# Altium footprint library MOLEX KK 0022272091.PCBLIB: 1 footprints
Each footprint in its own frame and in the unit in brackets; x right, y up, seen from the top. Pads: shape width x height; smd on the part's side, far side on the other; paste and mask are expansions set on the pad; w line width, h text height; cw(c..) or ccw(c..) is an arc to the next point about the centre after c.
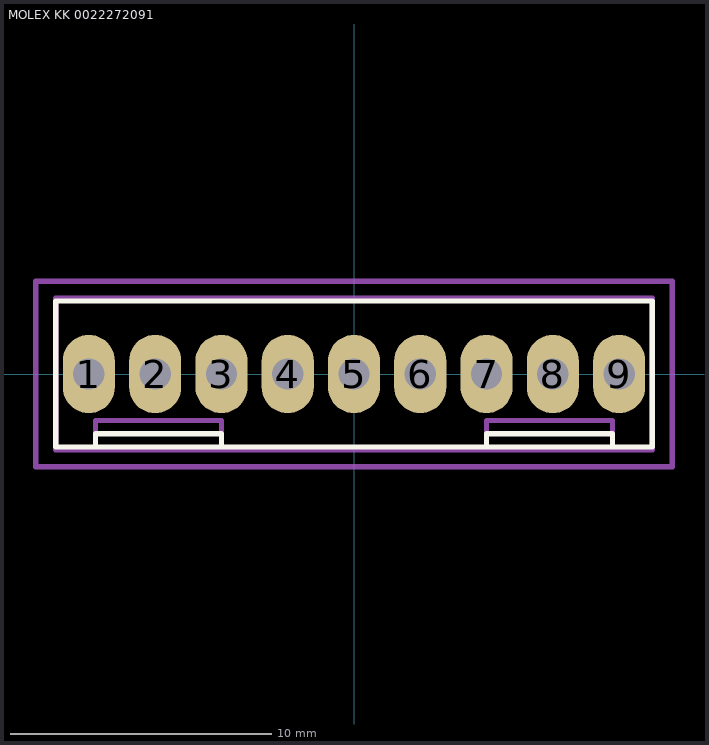
[diagram p0: the footprint, top view; thin cyan lines are the x and y axes]

## MOLEX KK 0022272091 [mm]
height 11.6
pads (9):
  oval 2x3 hole 1.2: 1(-10.16,0) 2(-7.62,0) 3(-5.08,0) 4(-2.54,0) 5(0,0) 6(2.54,0) 7(5.08,0) 8(7.62,0) 9(10.16,0)
Top Overlay:
  lines w0.2: -9.906,-2.794 -9.906,-2.286 -5.08,-2.286 -5.08,-2.794 ; 5.08,-2.794 5.08,-2.286 9.906,-2.286 9.906,-2.794 ; -11.43,-2.794 -11.43,2.794 11.43,2.794 11.43,-2.794 -11.43,-2.794
Mechanical 13:
  lines w0.2: -9.906,-2.9 -9.906,-1.778 -5.08,-1.778 -5.08,-2.9 ; 5.08,-2.9 5.08,-1.778 9.906,-1.778 9.906,-2.9 ; -11.43,-2.9 11.43,-2.9 11.43,2.9 -11.43,2.9 -11.43,-2.9
Mechanical 15:
  lines w0.2: -0.508,0 0.508,0 ; 0,-0.508 0,0.508 ; -12.192,-3.556 12.192,-3.556 12.192,-1.016 12.192,3.556 -12.192,3.556 -12.192,-3.556
3D body "MOLEX KK 022272091.STEP": height 11.7, standoff -3.56, extent -11.43,-2.9 11.43,2.9